# Altium footprint library Resistor.PcbLib: 24 footprints (part 2 of 2)
Each footprint in its own frame and in the unit in brackets; x right, y up, seen from the top. Pads: shape width x height; smd on the part's side, far side on the other; paste and mask are expansions set on the pad; w line width, h text height; cw(c..) or ccw(c..) is an arc to the next point about the centre after c.
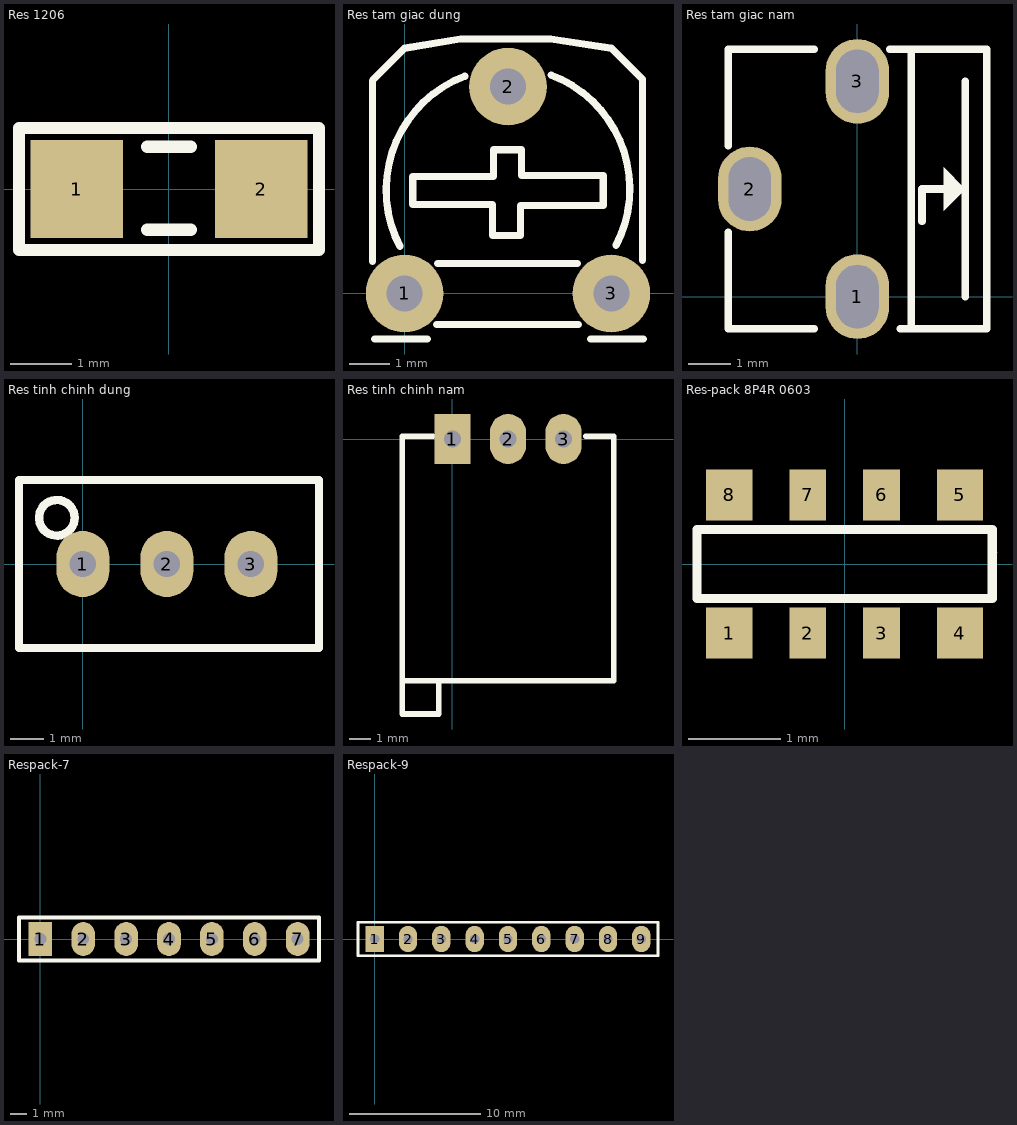
[diagram p1: the footprints below, top view; thin cyan lines are the x and y axes]

## Res 1206 [mm]
pads (2):
  rect 1.5x1.6 smd: 1(-1.5,0) 2(1.5,0)
Top Overlay:
  lines w0.2: -0.356,-0.66 0.356,-0.66 ; -0.356,0.686 0.356,0.686 ; -2.438,-0.991 2.438,-0.991 2.438,-0.203 2.438,0.991 -2.438,0.991 -2.438,-0.991
3D body "Resistor SMD 1206.step": height 0.6, standoff 0, extent -1.6,-0.8 1.6,0.8

## Res tam giac dung [mil]
pads (3):
  round 75 hole 35: 1(0,0) 2(100,200) 3(200,0)
Top Overlay:
  lines w7: -31,31 -31,206 0,237 54,246 141.5,246 200,237 230,207 230,32 ; -29,-44 22,-44 ; -4.35,45.34 cw(c100,100) 58.1,210.1 ; 8,113 8,86 85,86 85,56 112,56 112,85 192,85 192,114 113,114 113,139 86,139 86,113 9,113 ; 31,-30 168,-30 ; 32,29 167,29 ; 141.9,211.1 cw(c100,101) 204.35,46.34 ; 180,-44 231,-44
3D body "Bien TroTam Giac.step": height 278.74, standoff -150.39, extent -27.95,-49.68 227.95,227.88

## Res tam giac nam [mm]
pads (3):
  oval 1.5x2 hole 1 slot 1.5 at 90 deg: 1(0,0) 2(-2.54,2.54) 3(0,5.08)
Top Overlay:
  region: 2.032,3.048 2.032,2.032 2.54,2.54
  lines w0.178: -3.048,1.524 -3.048,-0.762 -1.016,-0.762 ; -3.048,3.556 -3.048,5.842 -1.016,5.842 ; 0.762,5.842 3.048,5.842 3.048,-0.762 1.016,-0.762 ; 1.27,-0.762 1.27,5.842 ; 1.524,1.778 1.524,2.54 2.032,2.54 ; 2.54,0 2.54,5.08
3D body "User Library-RM-063.STEP": height 9.5, standoff -1.81, extent -2.683,-0.71 2.946,5.79

## Res tinh chinh dung [mm]
pads (3):
  oval 1.6x2 hole 0.8: 1(0,0) 2(2.54,0) 3(5.08,0)
Top Overlay:
  circle w0.254: c-0.787,1.397 r0.539
  lines w0.254: -1.93,-2.54 7.137,-2.54 7.137,2.54 -1.93,2.54 -1.93,-2.54
3D body "User Library-Potenciometro Vertical.step": height 12.02, standoff -5.48, extent -1.997,-2.4 7.203,2.4

## Res tinh chinh nam [mil]
pads (3):
  rect 65x90 hole 30: 1(0,0)
  oval 65x90 hole 30: 2(100,0) 3(200,0)
Top Overlay:
  lines w10: -90,-460 -90,5 -35,5 ; -25,-435 -25,-495 -90,-495 -90,-435 290,-435 290,5 240,5
3D body "SW3dPS-Bourns_3299W.STEP": height 225.6, standoff -14.4, extent -87.5,-495 287.5,5

## Res-pack 8P4R 0603 [mm]
pads (8):
  rect 0.5x0.55 smd paste+0 mask+0.1: 1(-1.25,-0.748) 4(1.25,-0.748) 5(1.25,0.748) 8(-1.25,0.748)
  rect 0.4x0.55 smd paste+0 mask+0.1: 2(-0.4,-0.748) 3(0.4,-0.748) 6(0.4,0.748) 7(-0.4,0.748)
Top Overlay:
  lines w0.1: -1.6,-0.375 1.6,-0.375 1.6,0.375 -1.6,0.375 -1.6,-0.375
Mechanical 15:
  lines w0.003: 1.651,0.127 1.651,0.127
3D body "step_temp.STEP": height 0.6, standoff 0, extent -1.6,-0.8 1.6,0.8

## Respack-7 [mm]
pads (7):
  rect 1.4x2 hole 0.7: 1(0,0)
  oval 1.4x2 hole 0.7: 2(2.54,0) 3(5.08,0) 4(7.62,0) 5(10.16,0) 6(12.7,0) 7(15.24,0)
Top Overlay:
  lines w0.254: -1.27,-1.27 -1.27,1.27 16.51,1.27 16.51,-1.27 -1.27,-1.27
3D body "68010.stp": height 5.94, standoff -2.44, extent -1.245,-1.22 16.485,1.27

## Respack-9 [mm]
pads (9):
  rect 1.4x2 hole 0.7: 1(0,0)
  oval 1.4x2 hole 0.7: 2(2.54,0) 3(5.08,0) 4(7.62,0) 5(10.16,0) 6(12.7,0) 7(15.24,0) 8(17.78,0) 9(20.32,0)
Top Overlay:
  lines w0.2: -1.27,-1.27 21.59,-1.27 21.59,1.27 -1.27,1.27 -1.27,-1.27
3D body "Tro bang 9.step": height 5.57, standoff -2.93, extent -1.09,-0.635 21.41,0.615